# Altium footprint library Diodes.PcbLib: 10 footprints
Each footprint in its own frame and in the unit in brackets; x right, y up, seen from the top. Pads: shape width x height; smd on the part's side, far side on the other; paste and mask are expansions set on the pad; w line width, h text height; cw(c..) or ccw(c..) is an arc to the next point about the centre after c.
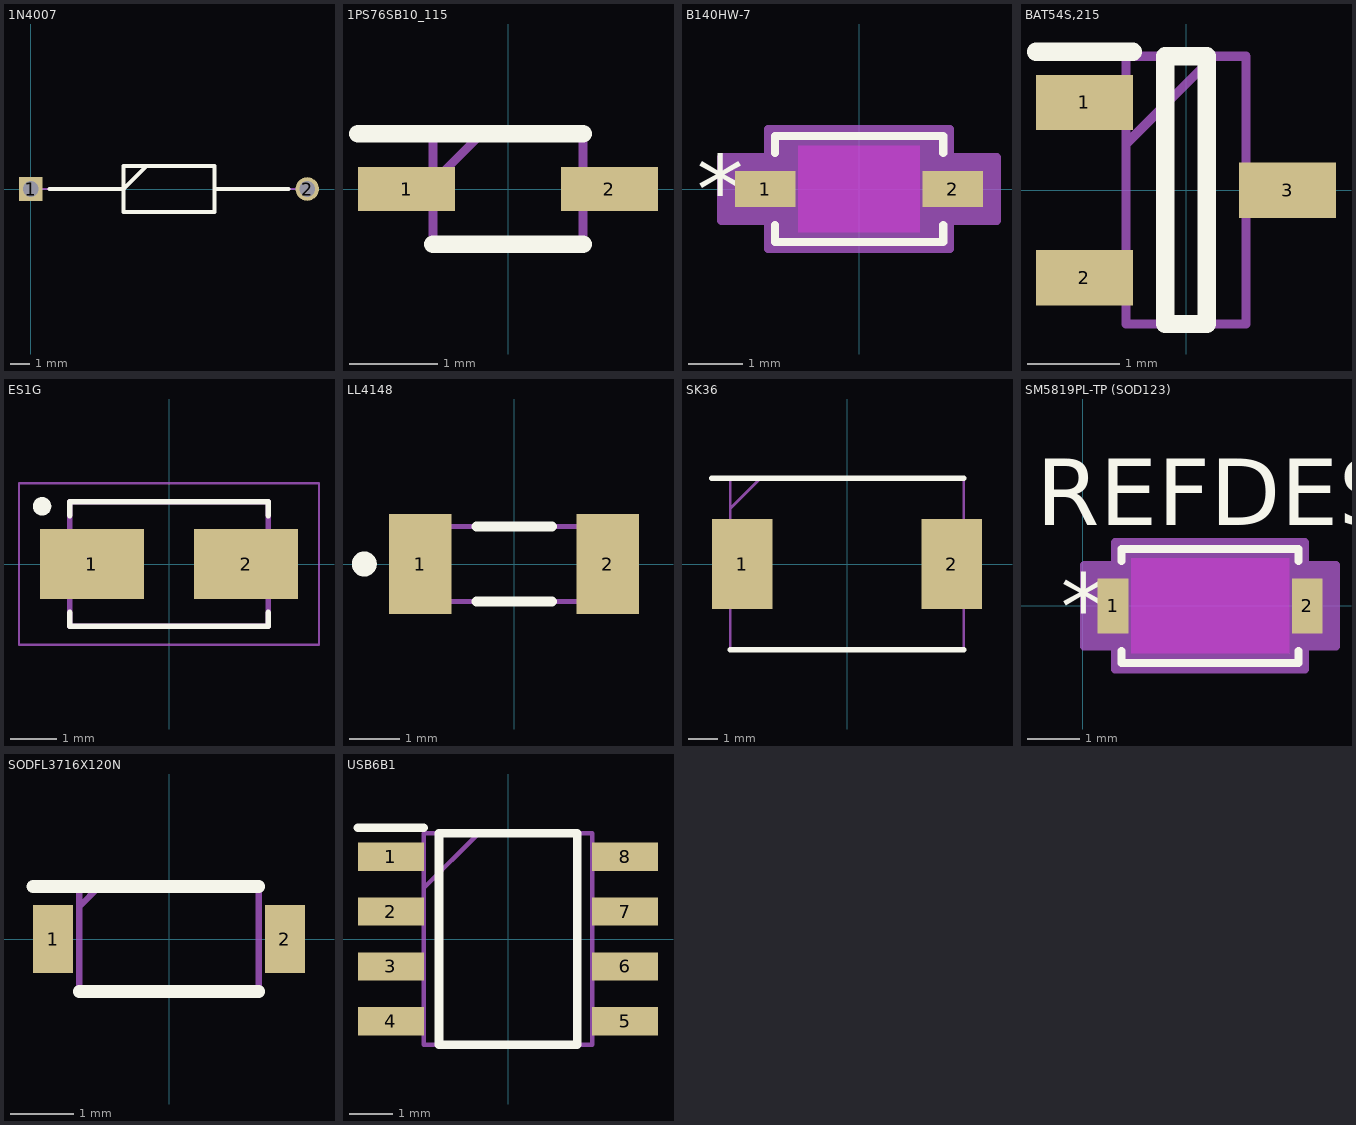
[diagram p0: the footprints below, top view; thin cyan lines are the x and y axes]

## 1N4007 [mm]
pads (2):
  rect 1.2x1.2 / inner round 1.2 / far side rect 1.2x1.2 hole 0.8: 1(0,0)
  round 1.2 hole 0.8: 2(14.1,0)
Top Overlay:
  lines w0.2: 0.95,0 4.725,0 5.9,1.175 ; 9.375,0 13.15,0 ; 4.725,-1.175 4.725,1.175 9.375,1.175 9.375,-1.175 4.725,-1.175
Mechanical 15:
  lines w0.1: 0,0 4.725,0 5.9,1.175 ; 9.375,0 14.1,0 ; 4.725,-1.175 4.725,1.175 9.375,1.175 9.375,-1.175 4.725,-1.175
3D body "1N4007.stp": height 2.69, standoff -2.7, extent -0.288,-1.347 14.34,1.347

## 1PS76SB10_115 [mm]
pads (2):
  rect 1.1x0.5 smd: 1(-1.15,0) 2(1.15,0)
Top Overlay:
  lines w0.2: -1.7,0.625 0.85,0.625 ; -0.85,-0.625 0.85,-0.625
Mechanical 15:
  lines w0.1: -0.85,0.075 -0.3,0.625 ; -0.85,-0.625 0.85,-0.625 0.85,0.625 -0.85,0.625 -0.85,-0.625
3D body "1PS76SB10,115.stp": height 0.88, standoff -0.05, extent -1.244,-0.635 1.244,0.615

## B140HW-7 [mil]
pads (2):
  rect 44x26 smd paste+0 mask+0: 1(-68,0) 2(68,0)
Top Overlay:
  lines w6: -61,-26.1 -61,-38.5 61,-38.5 61,-26.1 ; -61,26.1 -61,38.5 61,38.5 61,26.1
  text "*" at -117.5,-25 h50
Keep-Out Layer:
  region: -44,-31.5 -44,31.5 44,31.5 44,-31.5
Mechanical 15:
  region: -66,-23 -100,-23 -100,23 -66,23 -66,43.5 66,43.5 66,23 100,23 100,-23 66,-23 66,-43.5 -66,-43.5
  lines w6: -100,-23 -100,23 -66,23 -66,43.5 66,43.5 66,23 100,23 100,-23 66,-23 66,-43.5 -66,-43.5 -66,-23 -100,-23
3D body "SDO_SOD123_DIO.step": height 57.09, standoff 0, extent -75.98,-33.5 75.98,33.5

## BAT54S,215 [mm]
pads (3):
  rect 1.05x0.6 smd: 1(-1.1,0.95) 2(-1.1,-0.95) 3(1.1,0)
Top Overlay:
  lines w0.2: -1.625,1.5 -0.575,1.5 ; -0.225,-1.45 -0.225,1.45 0.225,1.45 0.225,-1.45 -0.225,-1.45
Mechanical 15:
  lines w0.1: -0.65,0.5 0.3,1.45 ; -0.65,-1.45 -0.65,1.45 0.65,1.45 0.65,-1.45 -0.65,-1.45
3D body "BAT54S,215.stp": height 0.91, standoff -0.04, extent -1.301,-1.45 1.1,1.45

## ES1G [mm]
pads (2):
  rect 2.26x1.51 smd paste+0 mask+0.102: 1(-1.67,0) 2(1.67,0)
Top Overlay:
  circle w0.2: c-2.75,1.25 r0.1
  lines w0.127: -2.15,-1.05 -2.15,-1.35 2.15,-1.35 2.15,-1.05 ; -2.15,1.05 -2.15,1.35 2.15,1.35 2.15,1.05
Mechanical 13:
  lines w0.127: -2.15,-1.35 2.15,-1.35 2.15,1.35 -2.15,1.35 -2.15,-1.35
Mechanical 15:
  lines w0.05: -3.25,-1.75 3.25,-1.75 3.25,1.75 -3.25,1.75 -3.25,-1.75
3D body "step_temp.STEP": height 2.37, standoff 0.2, extent -2.398,-1.27 2.652,1.43

## LL4148 [mm]
pads (2):
  rect 1.25x2 smd: 1(-1.875,0) 2(1.875,0)
Top Overlay:
  circle w0.25: c-3,0 r0.125
  lines w0.2: -0.75,-0.75 0.75,-0.75 ; -0.75,0.75 0.75,0.75
Mechanical 13:
  lines w0.1: -1.5,-0.75 -1.5,0.75 ; -1.75,-0.75 -1.75,0.75 1.75,0.75 1.75,-0.75 -1.75,-0.75
3D body "LL4148-GS18.stp": height 1.6, standoff 0, extent -1.85,-0.783 1.85,0.783

## SK36 [mm]
pads (2):
  rect 2.05x3.05 smd: 1(-3.55,0) 2(3.55,0)
Top Overlay:
  lines w0.2: -4.575,2.9 3.95,2.9 ; -3.95,-2.9 3.95,-2.9
Mechanical 15:
  lines w0.1: -3.95,1.875 -2.925,2.9 ; -3.95,-2.9 -3.95,2.9 3.95,2.9 3.95,-2.9 -3.95,-2.9
3D body "SK36.stp": height 2.5, standoff 0, extent -3.95,-3.027 3.95,2.773

## SM5819PL-TP (SOD123) [mil]
pads (2):
  rect 23x41 smd paste+0 mask+0: 1(22.5,0) 2(167.5,0)
Top Layer keep-out:
  region: 36,-35.5 36,35.5 154,35.5 154,-35.5
Top Overlay:
  lines w6: 29,-33.6 29,-42.5 161,-42.5 161,-33.6 ; 29,33.6 29,42.5 161,42.5 161,33.6
  text "REFDES" at -35,60 h50
  text "*" at -16.5,-25 h50
Keep-Out Layer:
  region: 36,-35.5 36,35.5 154,35.5 154,-35.5
Mechanical 13:
  lines w1: 34,-18.75 52.75,-37.5 ; 34,18.75 52.75,37.5 ; 19,-20.5 34,-20.5 34,20.5 19,20.5 19,-20.5 ; 34,-37.5 34,37.5 156,37.5 156,-37.5 34,-37.5 ; 156,-20.5 171,-20.5 171,20.5 156,20.5 156,-20.5
  text "*" at 31.5,-25 h50
Mechanical 15:
  region: 24,-30.5 1,-30.5 1,30.5 24,30.5 24,47.5 166,47.5 166,30.5 189,30.5 189,-30.5 166,-30.5 166,-47.5 24,-47.5
  lines w6: 1,-30.5 24,-30.5 24,-47.5 166,-47.5 166,-30.5 189,-30.5 189,30.5 166,30.5 166,47.5 24,47.5 24,30.5 1,30.5 1,-30.5
3D body "SOD-123FL_MCC.step": height 75.24, standoff 0, extent 19.02,-37.48 170.98,37.48

## SODFL3716X120N [mm]
pads (2):
  rect 0.63x1.07 smd: 1(-1.825,0) 2(1.825,0)
Top Overlay:
  lines w0.2: -2.14,0.825 1.412,0.825 ; -1.412,-0.825 1.412,-0.825
Mechanical 15:
  lines w0.1: -1.412,0.51 -1.098,0.825 ; -1.412,-0.825 1.412,-0.825 1.412,0.825 -1.412,0.825 -1.412,-0.825
3D body "SM4001PL-TP.stp": height 1.03, standoff -0.17, extent -1.8,-0.762 1.8,0.838

## USB6B1 [mm]
pads (8):
  rect 1.525x0.65 smd: 1(-2.712,1.905) 2(-2.712,0.635) 3(-2.712,-0.635) 4(-2.712,-1.905) 5(2.712,-1.905) 6(2.712,-0.635) 7(2.712,0.635) 8(2.712,1.905)
Top Overlay:
  lines w0.2: -3.475,2.58 -1.95,2.58 ; -1.6,-2.45 -1.6,2.45 1.6,2.45 1.6,-2.45 -1.6,-2.45
Mechanical 15:
  lines w0.1: -1.95,1.18 -0.68,2.45 ; -1.95,-2.45 -1.95,2.45 1.95,2.45 1.95,-2.45 -1.95,-2.45
3D body "USB6B1RL.stp": height 1.75, standoff 0, extent -3,-2.45 3,2.45